# Altium schematic symbol library USB MINI B.SchLib: 1 symbol
Pins are listed as number, name and electrical type; pins without a type are passive.

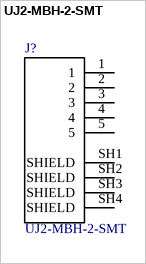
[diagram p0: symbol UJ2-MBH-2-SMT]

## UJ2-MBH-2-SMT
designator J?
CONN RCPT USB2.0 MINI B SMD R/A; MF: CUI Inc.; MP: UJ2-MBH-2-SMT-TR; Price: None; Availability: Unavailable; Package: None; SnapEDA_Link: https://www.snapeda.com/parts/UJ2-MBH-2-SMT-TR/CUI%20Inc./view-part/?ref=snap; CUI_purchase_URL: https://www.cui.com/product/interconnect/connectors/usb-connectors/uj2-mbh-smt-series?utm_source=snapeda.com&utm_medium=referral&utm_campaign=snapedaBOM; Value: *
footprint *CUI_UJ2-MBH-2-SMT_UJ2-MBH-2-SMT(Primary)
pins: 1, 2, 3, 4, 5, SH1 SHIELD, SH2 SHIELD, SH3 SHIELD, SH4 SHIELD